# Altium footprint library DXPpcb.PCBLIB: 575 footprints (part 10 of 36)
Each footprint in its own frame and in the unit in brackets; x right, y up, seen from the top. Pads: shape width x height; smd on the part's side, far side on the other; paste and mask are expansions set on the pad; w line width, h text height; cw(c..) or ccw(c..) is an arc to the next point about the centre after c.
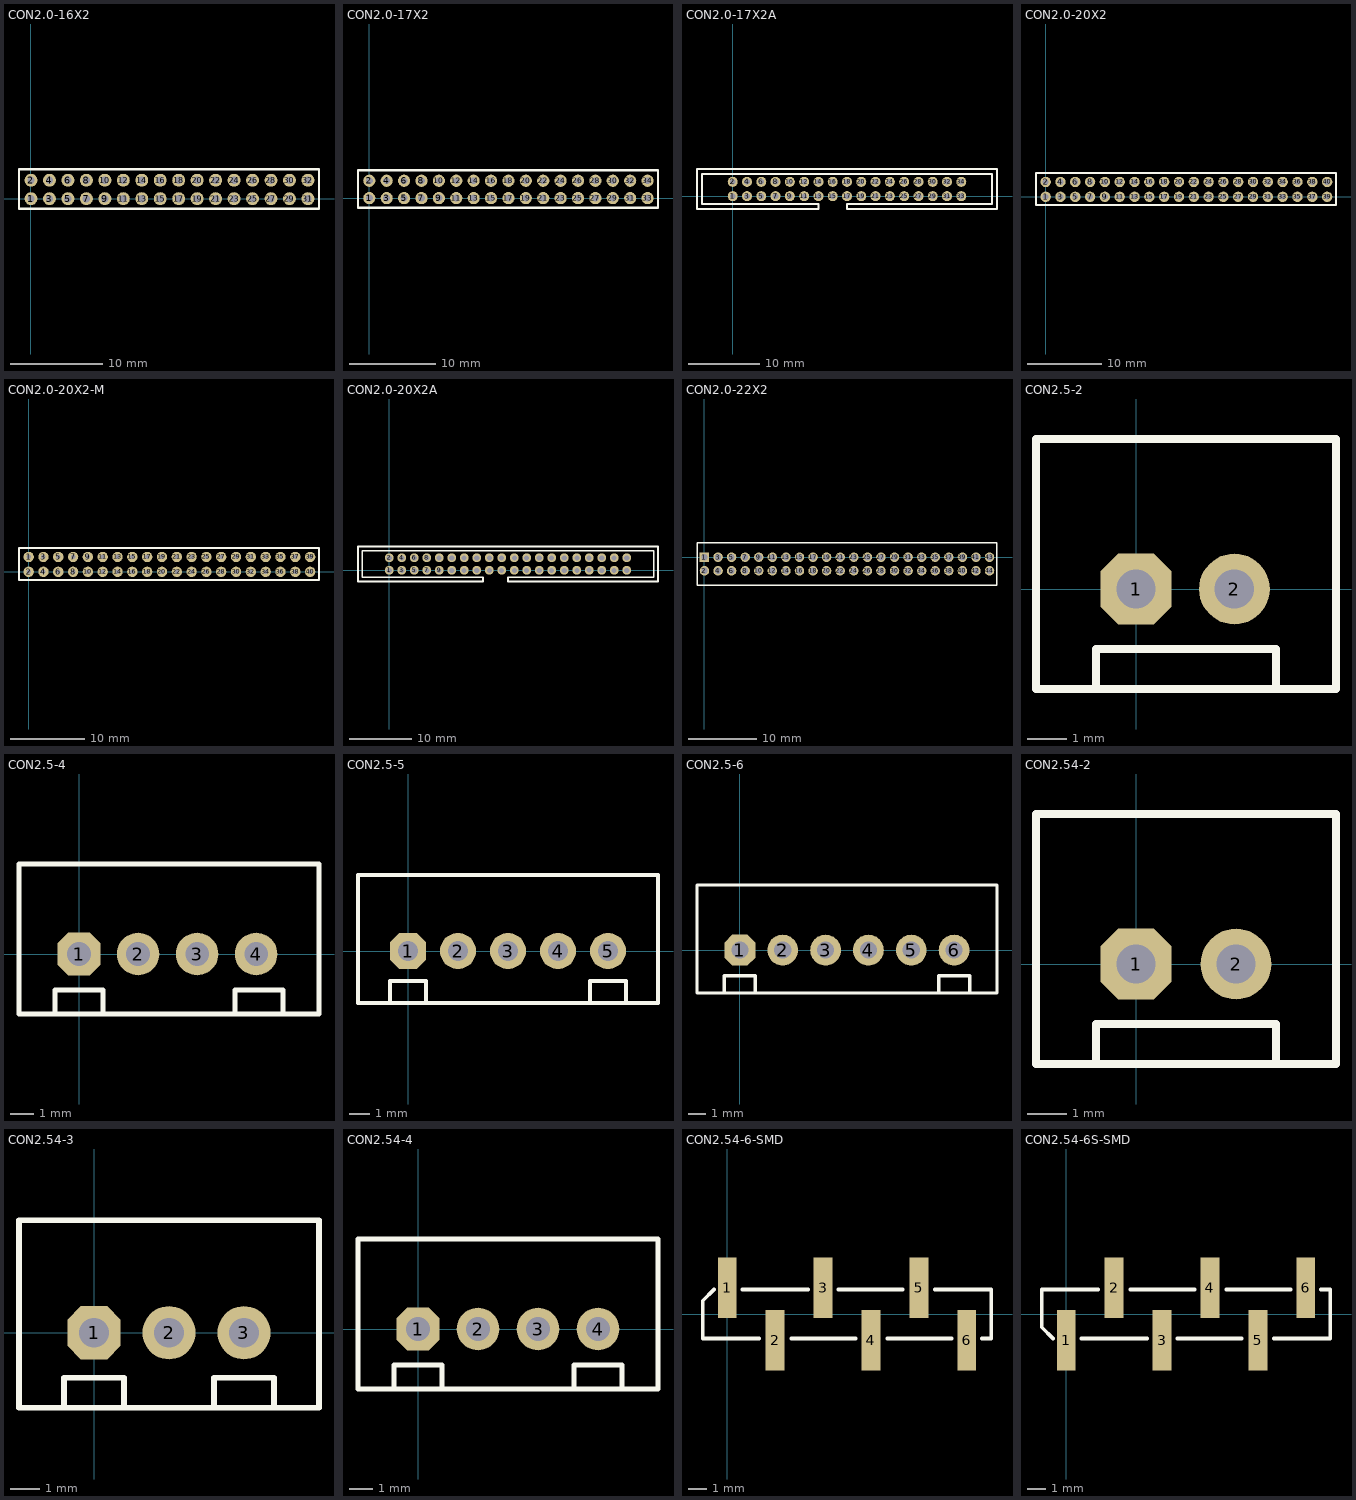
[diagram p9: the footprints below, top view; thin cyan lines are the x and y axes]

## CON2.0-16X2 [mm]
pads (32):
  round 1.4 hole 0.8: 1(0,0) 2(0,2) 3(2,0) 4(2,2) 5(4,0) 6(4,2) 7(6,0) 8(6,2) 9(8,0) 10(8,2) 11(10,0) 12(10,2) 13(12,0) 14(12,2) 15(14,0) 16(14,2) 17(16,0) 18(16,2) 19(18,0) 20(18,2) 21(20,0) 22(20,2) 23(22,0) 24(22,2) 25(24,0) 26(24,2) 27(26,0) 28(26,2) 29(28,0) 30(28,2) 31(30,0) 32(30,2)
TopOverlay:
  lines w0.254: -1.3,-1.1 -1.3,3.2 31.2,3.2 31.2,-1.1 -1.3,-1.1

## CON2.0-17X2 [mm]
pads (34):
  round 1.4 hole 0.8: 1(0,0) 2(0,2) 3(2,0) 4(2,2) 5(4,0) 6(4,2) 7(6,0) 8(6,2) 9(8,0) 10(8,2) 11(10,0) 12(10,2) 13(12,0) 14(12,2) 15(14,0) 16(14,2) 17(16,0) 18(16,2) 19(18,0) 20(18,2) 21(20,0) 22(20,2) 23(22,0) 24(22,2) 25(24,0) 26(24,2) 27(26,0) 28(26,2) 29(28,0) 30(28,2) 31(30,0) 32(30,2) 33(32,0) 34(32,2)
TopOverlay:
  lines w0.254: -1.3,-1.1 33.2,-1.1 33.2,3.2 -1.3,3.2 -1.3,-1.1

## CON2.0-17X2A [mm]
pads (34):
  round 1.4 hole 0.8: 1(0,0) 2(0,2) 3(2,0) 4(2,2) 5(4,0) 6(4,2) 7(6,0) 8(6,2) 9(8,0) 10(8,2) 11(10,0) 12(10,2) 13(12,0) 14(12,2) 15(14,0) 16(14,2) 17(16,0) 18(16,2) 19(18,0) 20(18,2) 21(20,0) 22(20,2) 23(22,0) 24(22,2) 25(24,0) 26(24,2) 27(26,0) 28(26,2) 29(28,0) 30(28,2) 31(30,0) 32(30,2) 33(32,0) 34(32,2)
TopOverlay:
  lines w0.254: -5,-1.8 12,-1.8 12,-1.1 -4.3,-1.1 -4.3,3.1 36.3,3.1 36.3,-1.1 16,-1.1 16,-1.8 37,-1.8 37,3.8 -5,3.8 -5,-1.8

## CON2.0-20X2 [mm]
pads (40):
  round 1.4 hole 0.8: 1(0,0) 2(0,2) 3(2,0) 4(2,2) 5(4,0) 6(4,2) 7(6,0) 8(6,2) 9(8,0) 10(8,2) 11(10,0) 12(10,2) 13(12,0) 14(12,2) 15(14,0) 16(14,2) 17(16,0) 18(16,2) 19(18,0) 20(18,2) 21(20,0) 22(20,2) 23(22,0) 24(22,2) 25(24,0) 26(24,2) 27(26,0) 28(26,2) 29(28,0) 30(28,2) 31(30,0) 32(30,2) 33(32,0) 34(32,2) 35(34,0) 36(34,2) 37(36,0) 38(36,2) 39(38,0) 40(38,2)
TopOverlay:
  lines w0.254: -1.3,-1.1 -1.3,3.2 39.2,3.2 39.2,-1.1 -1.3,-1.1

## CON2.0-20X2-M [mm]
pads (40):
  round 1.4 hole 0.6: 1(0,2) 2(0,0) 3(2,2) 4(2,0) 5(4,2) 6(4,0) 7(6,2) 8(6,0) 9(8,2) 10(8,0) 11(10,2) 12(10,0) 13(12,2) 14(12,0) 15(14,2) 16(14,0) 17(16,2) 18(16,0) 19(18,2) 20(18,0) 21(20,2) 22(20,0) 23(22,2) 24(22,0) 25(24,2) 26(24,0) 27(26,2) 28(26,0) 29(28,2) 30(28,0) 31(30,2) 32(30,0) 33(32,2) 34(32,0) 35(34,2) 36(34,0) 37(36,2) 38(36,0) 39(38,2) 40(38,0)
TopOverlay:
  lines w0.254: -1.3,-1.1 39.2,-1.1 39.2,3.2 -1.3,3.2 -1.3,-1.1

## CON2.0-20X2A [mm]
pads (40):
  round 1.4 hole 0.8: 1(0,0) 2(0,2) 3(2,0) 4(2,2) 5(4,0) 6(4,2) 7(6,0) 8(6,2) 9(8,0) 10(8,2) 11(10,0) 12(10,2) 13(12,0) 14(12,2) 15(14,0) 16(14,2) 17(16,0) 18(16,2) 19(18,0) 20(18,2) 21(20,0) 22(20,2) 23(22,0) 24(22,2) 25(24,0) 26(24,2) 27(26,0) 28(26,2) 29(28,0) 30(28,2) 31(30,0) 32(30,2) 33(32,0) 34(32,2) 35(34,0) 36(34,2) 37(36,0) 38(36,2) 39(38,0) 40(38,2)
TopOverlay:
  lines w0.254: -5,-1.8 15,-1.8 15,-1.1 -4.3,-1.1 -4.3,3.1 42.3,3.1 42.3,-1.1 19,-1.1 19,-1.8 43,-1.8 43,3.8 -5,3.8 -5,-1.8

## CON2.0-22X2 [mm]
pads (44):
  rect 1.4x1.4 hole 0.9: 1(0,0)
  round 1.4 hole 0.9: 2(0,-2) 3(2,0) 4(2,-2) 5(4,0) 6(4,-2) 7(6,0) 8(6,-2) 9(8,0) 10(8,-2) 11(10,0) 12(10,-2) 13(12,0) 14(12,-2) 15(14,0) 16(14,-2) 17(16,0) 18(16,-2) 19(18,0) 20(18,-2) 21(20,0) 22(20,-2) 23(22,0) 24(22,-2) 25(24,0) 26(24,-2) 27(26,0) 28(26,-2) 29(28,0) 30(28,-2) 31(30,0) 32(30,-2) 33(32,0) 34(32,-2) 35(34,0) 36(34,-2) 37(36,0) 38(36,-2) 39(38,0) 40(38,-2) 41(40,0) 42(40,-2) 43(42,0) 44(42,-2)
TopOverlay:
  lines w0.2: -1.1,-4.1 43.1,-4.1 43.1,2.1 -1.1,2.1 -1.1,-4.1

## CON2.5-2 [mm]
pads (2):
  oct 1.8x1.8 hole 1: 1(0,0)
  round 1.8 hole 1: 2(2.5,0)
TopOverlay:
  lines w0.2: -1.016,-2.54 -1.016,-1.524 3.556,-1.524 3.556,-2.54 ; -2.54,-2.54 5.08,-2.54 5.08,3.81 -2.54,3.81 -2.54,0 -2.54,-2.54

## CON2.5-4 [mm]
pads (4):
  oct 1.8x1.8 hole 1: 1(0,0)
  round 1.8 hole 1: 2(2.5,0) 3(5,0) 4(7.5,0)
TopOverlay:
  lines w0.2: -1.016,-2.54 -1.016,-1.524 1.016,-1.524 1.016,-2.54 ; 6.604,-2.54 6.604,-1.524 8.636,-1.524 8.636,-2.54 ; -2.54,-2.54 -2.54,0 -2.54,3.81 7.62,3.81 10.16,3.81 10.16,-2.54 7.62,-2.54 -2.54,-2.54

## CON2.5-5 [mm]
pads (5):
  oct 1.8x1.8 hole 1: 1(0,0)
  round 1.8 hole 1: 2(2.5,0) 3(5,0) 4(7.5,0) 5(10,0)
TopOverlay:
  lines w0.2: -0.9,-2.6 -0.9,-1.5 0.9,-1.5 0.9,-2.6 ; 9.1,-2.6 9.1,-1.5 10.9,-1.5 10.9,-2.6 ; -2.5,-2.6 -2.5,0 -2.5,3.8 12.5,3.8 12.5,-2.6 -2.5,-2.6

## CON2.5-6 [mm]
pads (6):
  oct 1.8x1.8 hole 1: 1(0,0)
  round 1.8 hole 1: 2(2.5,0) 3(5,0) 4(7.5,0) 5(10,0) 6(12.5,0)
TopOverlay:
  lines w0.2: -0.9,-2.5 -0.9,-1.5 0.9,-1.5 0.9,-2.5 ; 11.6,-2.5 11.6,-1.5 13.4,-1.5 13.4,-2.5 ; -2.5,-2.5 -2.5,-0.2 -2.5,3.8 15,3.8 15,-2.5 -2.5,-2.5

## CON2.54-2 [mm]
pads (2):
  oct 1.8x1.8 hole 1: 1(0,0)
  round 1.8 hole 1: 2(2.54,0)
TopOverlay:
  lines w0.2: -1.016,-2.54 -1.016,-1.524 3.556,-1.524 3.556,-2.54 ; -2.54,-2.54 5.08,-2.54 5.08,3.81 -2.54,3.81 -2.54,0 -2.54,-2.54

## CON2.54-3 [mm]
pads (3):
  oct 1.8x1.8 hole 1: 1(0,0)
  round 1.8 hole 1: 2(2.54,0) 3(5.08,0)
TopOverlay:
  lines w0.2: -1.016,-2.54 -1.016,-1.524 1.016,-1.524 1.016,-2.54 ; 4.064,-2.54 4.064,-1.524 6.096,-1.524 6.096,-2.54 ; -2.54,-2.54 7.62,-2.54 7.62,3.81 -2.54,3.81 -2.54,0 -2.54,-2.54

## CON2.54-4 [mm]
pads (4):
  oct 1.8x1.8 hole 1: 1(0,0)
  round 1.8 hole 1: 2(2.54,0) 3(5.08,0) 4(7.62,0)
TopOverlay:
  lines w0.2: -1.016,-2.54 -1.016,-1.524 1.016,-1.524 1.016,-2.54 ; 6.604,-2.54 6.604,-1.524 8.636,-1.524 8.636,-2.54 ; -2.54,-2.54 7.62,-2.54 10.16,-2.54 10.16,3.81 7.62,3.81 -2.54,3.81 -2.54,0 -2.54,-2.54

## CON2.54-6-SMD [mm]
pads (6):
  rect 1x3.2 smd: 1(0,1.4) 2(2.54,-1.4) 3(5.08,1.4) 4(7.62,-1.4) 5(10.16,1.4) 6(12.7,-1.4)
TopOverlay:
  lines w0.2: -0.7,1.3 -1.3,0.7 -1.3,-1.3 1.7,-1.3 ; 0.8,1.3 4.3,1.3 ; 3.4,-1.3 6.8,-1.3 ; 5.9,1.3 9.3,1.3 ; 8.5,-1.3 11.9,-1.3 ; 11,1.3 14,1.3 14,-1.3 13.5,-1.3

## CON2.54-6S-SMD [mm]
pads (6):
  rect 1x3.2 smd: 1(0,-1.4) 2(2.54,1.4) 3(5.08,-1.4) 4(7.62,1.4) 5(10.16,-1.4) 6(12.7,1.4)
TopOverlay:
  lines w0.2: -0.7,-1.3 -1.3,-0.7 -1.3,1.3 1.7,1.3 ; 0.8,-1.3 4.3,-1.3 ; 3.4,1.3 6.8,1.3 ; 5.9,-1.3 9.3,-1.3 ; 8.5,1.3 11.9,1.3 ; 11,-1.3 14,-1.3 14,1.3 13.5,1.3